# EAGLE library part ITG3050 (library ITG3050)
ITG-3050 Rate Gyro for ADACS.
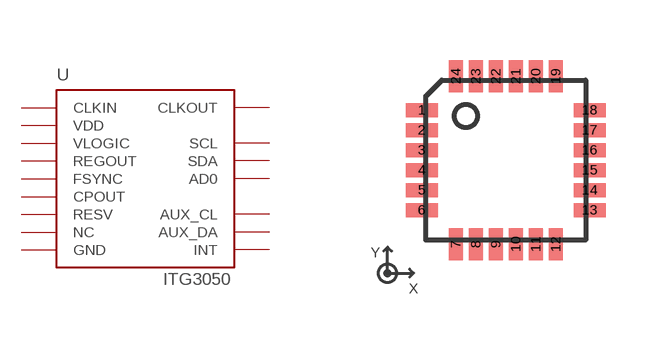
[diagram p0: symbol with the pads of ITG3050; footprint ITG3050]

Designator prefix -

## ITG3050  [ITG3050]
1  CLKIN
2  NC
3  NC
4  NC
5  NC
6  AUX_DA
7  AUX_CL
8  VLOGIC
9  AD0
10  REGOUT
11  FSYNC
12  INT
13  VDD
14  NC
15  NC
16  NC
17  NC
18  GND
19  RESV
20  CPOUT
21  RESV
22  CLKOUT
23  SCL
24  SDA

## Footprint ITG3050 (pad centres in mm)
smd 0.8 x 0.35: 1 -2.1,1.25; 2 -2.1,0.75; 3 -2.1,0.25; 4 -2.1,-0.25; 5 -2.1,-0.75; 6 -2.1,-1.25; 13 2.1,-1.25; 14 2.1,-0.75; 15 2.1,-0.25; 16 2.1,0.25; 17 2.1,0.75; 18 2.1,1.25
smd 0.35 x 0.8: 7 -1.25,-2.1; 8 -0.75,-2.1; 9 -0.25,-2.1; 10 0.25,-2.1; 11 0.75,-2.1; 12 1.25,-2.1; 19 1.25,2.1; 20 0.75,2.1; 21 0.25,2.1; 22 -0.25,2.1; 23 -0.75,2.1; 24 -1.25,2.1